# Altium footprint library DI_LED_0805.PcbLib: 1 footprints
Each footprint in its own frame and in the unit in brackets; x right, y up, seen from the top. Pads: shape width x height; smd on the part's side, far side on the other; paste and mask are expansions set on the pad; w line width, h text height; cw(c..) or ccw(c..) is an arc to the next point about the centre after c.
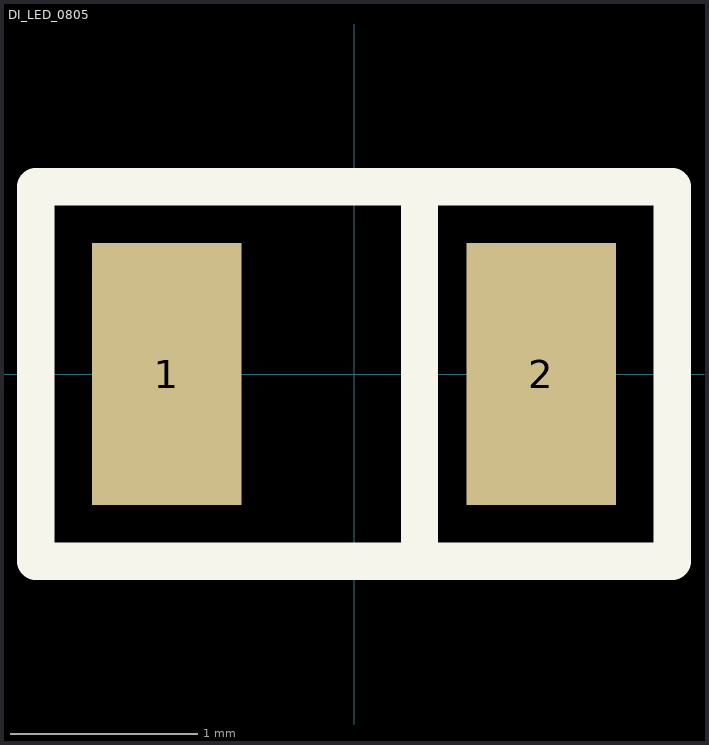
[diagram p0: the footprint, top view; thin cyan lines are the x and y axes]

## DI_LED_0805 [mm] "LD_0805_VAC"
pads (2):
  rect 0.8x1.4 smd: 1(-1,0) 2(1,0)
Top Overlay:
  lines w0.2: 0.35,-1 0.35,1 ; -1.7,-1 1.7,-1 1.7,1 -1.7,1 -1.7,-1
3D body "SW3dPS-LED SMD0805.STEP": height 0.85, standoff 0.01, extent -1.016,-0.475 1.047,0.432